# Altium integrated library BB Analog Integrator.IntLib: 2 symbols
Pins are listed as number, name and electrical type; pins without a type are passive.

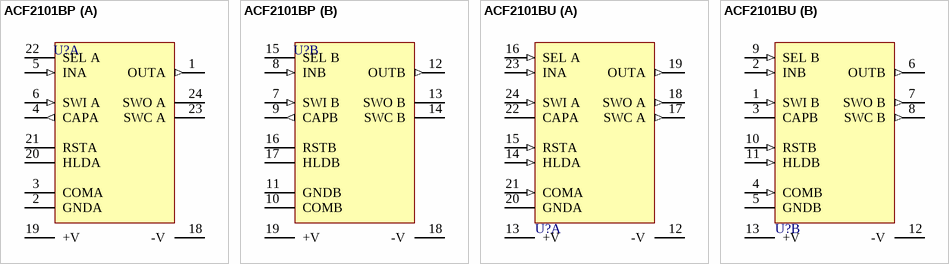
[diagram p0: symbols ACF2101BP to ACF2101BU]

## ACF2101BP
designator U?
Low-Noise, Dual Switched Integrator; Published: 8-Jun-2000; LatestRevisionDate: 06-Jun-2005; LatestRevisionNote: Stylized 3D Model Added.; DatasheetVersion: Sep-1994; PackageVersion: revD; PackageReference: 243D; Publisher: Altium Limited; PackageDescription: DIP; 24 Leads; Row Spacing 7.62 mm; Pitch 2.54 mm; Code_JEDEC: MS-001-AF; ComponentLink1Description: Manufacturer Link; ComponentLink1URL: http://www.ti.com/; ComponentLink2Description: Datasheet; ComponentLink2URL: http://www-s.ti.com/sc/ds/acf2101.pdf
footprint 243D (DIP; 24 Leads; Row Spacing 7.62 mm; Pitch 2.54 mm)
3D model 243 (DIP; 24 Leads; Row Spacing 7.62 mm; Pitch 2.54 mm)
simulation model ACF2101M (SUBCKT)
pins on every part: 18 -V (power), 19 +V (power)
part A pins: 1 OUTA (out), 2 GNDA (power), 3 COMA (power), 4 CAPA (out), 5 INA (in), 6 SWI A (in), 20 HLDA, 21 RSTA, 22 SEL A, 23 SWC A, 24 SWO A
part B pins: 7 SWI B (in), 8 INB (in), 9 CAPB (out), 10 COMB (power), 11 GNDB (power), 12 OUTB (out), 13 SWO B, 14 SWC B, 15 SEL B, 16 RSTB, 17 HLDB

## ACF2101BU
designator U?
Low-Noise, Dual Switched Integrator; Published: 8-Jun-2000; LatestRevisionDate: 13-Apr-2006; LatestRevisionNote: IPC-7351 Footprint Added.; DatasheetVersion: Sep-1994; PackageReference: 239E; Publisher: Altium Limited; PackageDescription: 24-Pin Small Outline Integrated Circuit 1.27 mm Pitch; ComponentLink1Description: Manufacturer Link; ComponentLink1URL: http://www.ti.com/; ComponentLink2Description: Datasheet; ComponentLink2URL: http://www-s.ti.com/sc/ds/acf2101.pdf
footprint 239E_N (SOIC, 24-Leads, Body 15.4x7.5mm, Pitch 1.27mm, IPC Medium Density)
footprint 239E_L (SOIC, 24-Leads, Body 15.4x7.5mm, Pitch 1.27mm, IPC High Density)
footprint 239E_M (SOIC, 24-Leads, Body 15.4x7.5mm, Pitch 1.27mm, IPC Low Density)
3D model 239 (24-Pin Small Outline Integrated Circuit 1.27 mm Pitch)
simulation model ACF2101M (SUBCKT)
pins on every part: 12 -V (power), 13 +V (power)
part A pins: 14 HLDA (in), 15 RSTA (in), 16 SEL A (in), 17 SWC A (out), 18 SWO A (out), 19 OUTA (out), 20 GNDA (power), 21 COMA (in), 22 CAPA, 23 INA (in), 24 SWI A (in)
part B pins: 1 SWI B (in), 2 INB (in), 3 CAPB, 4 COMB (in), 5 GNDB (power), 6 OUTB (out), 7 SWO B (out), 8 SWC B (out), 9 SEL B (in), 10 RSTB (in), 11 HLDB (in)